# Altium footprint library A4950.PcbLib: 1 footprints
Each footprint in its own frame and in the unit in brackets; x right, y up, seen from the top. Pads: shape width x height; smd on the part's side, far side on the other; paste and mask are expansions set on the pad; w line width, h text height; cw(c..) or ccw(c..) is an arc to the next point about the centre after c.
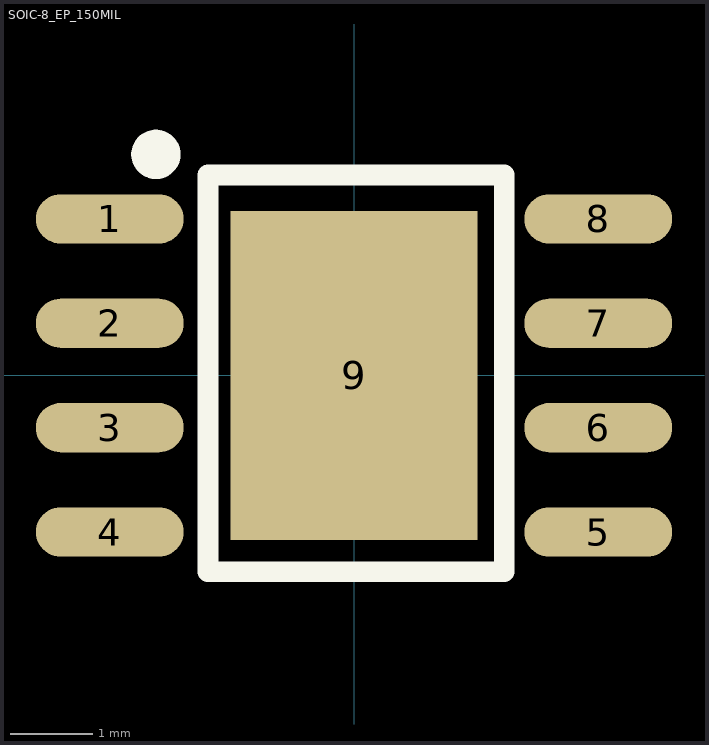
[diagram p0: the footprint, top view; thin cyan lines are the x and y axes]

## SOIC-8_EP_150MIL [mm]
pads (9):
  oval 1.8x0.6 smd: 1(-2.972,1.905) 2(-2.972,0.635) 3(-2.972,-0.635) 4(-2.972,-1.905) 5(2.972,-1.905) 6(2.972,-0.635) 7(2.972,0.635) 8(2.972,1.905)
  rect 3x4 smd: 9(0,0)
Top Overlay:
  lines w0.254: 1.829,2.438 -1.778,2.438 ; -1.778,2.438 -1.778,2.438 ; -1.778,2.438 -1.778,-2.388 1.829,-2.388 1.829,2.413 ; 1.829,2.413 1.829,2.413
  lines w0.3: -2.261,2.69 cw(c-2.411,2.691) -2.261,2.692